# Altium schematic symbol library DC_BARREL_JACK_DISCON.SchLib: 1 symbol
Pins are listed as number, name and electrical type; pins without a type are passive.

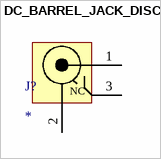
[diagram p0: symbol DC_BARREL_JACK_DISCON]

## DC_BARREL_JACK_DISCON
designator J?
pins: 1 CENTER, 2 BARREL, 3 SW
text: NC